# EAGLE library part CONN2X17PLANAR (library den)
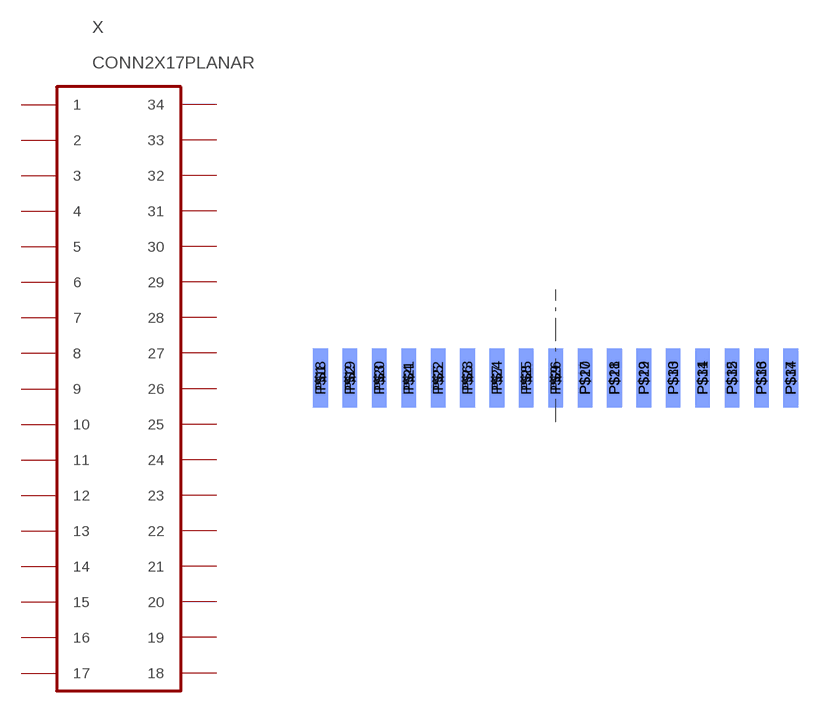
[diagram p21: symbol with the pads of CONN2X17P; footprint CONN2X17P]

Designator prefix X

## CONN2X17PLANAR  [CONN2X17P]
P$1  1
P$2  2
P$3  3
P$4  4
P$5  5
P$6  6
P$7  7
P$8  8
P$9  9
P$10  10
P$11  11
P$12  12
P$13  13
P$14  14
P$15  15
P$16  16
P$17  17
P$18  18
P$19  19
P$20  20
P$21  21
P$22  22
P$23  23
P$24  24
P$25  25
P$26  26
P$27  27
P$28  28
P$29  29
P$30  30
P$31  31
P$32  32
P$33  33
P$34  34

## Footprint CONN2X17P (pad centres in mm)
smd 1.27 x 5.08: P$1 0,2.54; P$2 2.54,2.54; P$3 5.08,2.54; P$4 7.62,2.54; P$5 10.16,2.54; P$6 12.7,2.54; P$7 15.24,2.54; P$8 17.78,2.54; P$9 20.32,2.54; P$10 22.86,2.54; P$11 25.4,2.54; P$12 27.94,2.54; P$13 30.48,2.54; P$14 33.02,2.54; P$15 35.56,2.54; P$16 38.1,2.54; P$17 40.64,2.54
smd 1.27 x 5.08 bottom: P$18 0,2.54; P$19 2.54,2.54; P$20 5.08,2.54; P$21 7.62,2.54; P$22 10.16,2.54; P$23 12.7,2.54; P$24 15.24,2.54; P$25 17.78,2.54; P$26 20.32,2.54; P$27 22.86,2.54; P$28 25.4,2.54; P$29 27.94,2.54; P$30 30.48,2.54; P$31 33.02,2.54; P$32 35.56,2.54; P$33 38.1,2.54; P$34 40.64,2.54